# Altium footprint library wavesharereverse.PcbLib: 1 footprints
Each footprint in its own frame and in the unit in brackets; x right, y up, seen from the top. Pads: shape width x height; smd on the part's side, far side on the other; paste and mask are expansions set on the pad; w line width, h text height; cw(c..) or ccw(c..) is an arc to the next point about the centre after c.
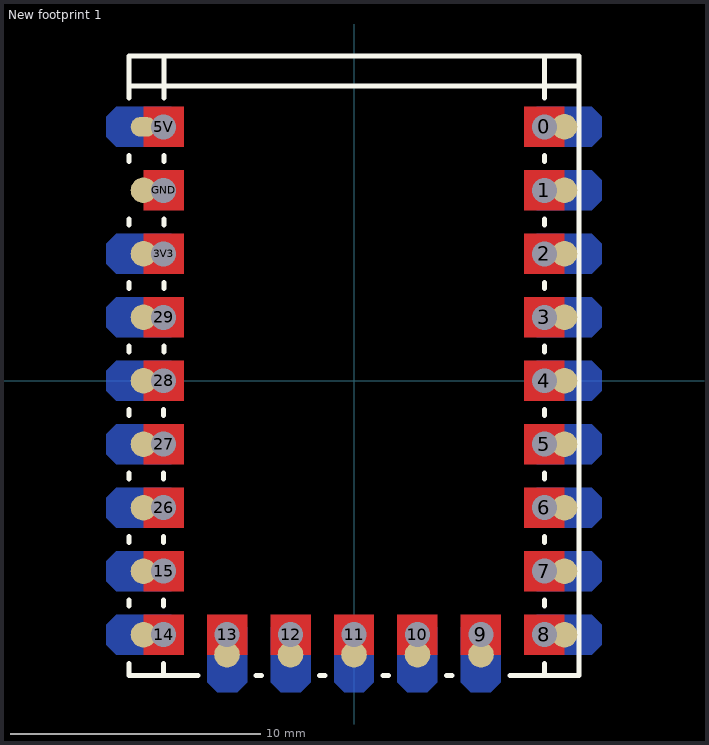
[diagram p0: the footprint, top view; thin cyan lines are the x and y axes]

## New footprint 1 [mm]
pads (23):
  round 1.025 / inner oct 3x1.6 / far side oct 1.6x1.6 hole 1 copper offset 0.8,0: 0(7.62,10.16) 1(7.62,7.62) 2(7.62,5.08) 3(7.62,2.54) 4(7.62,0) 5(7.62,-2.54) 6(7.62,-5.08) 7(7.62,-7.62) 8(7.62,-10.16)
  round 1.025 / inner oct 3x1.6 / far side oct 1.6x1.6 hole 1 copper offset -0.8,0: 3V3(-7.62,5.08) 14(-7.62,-10.16) 15(-7.62,-7.62) 26(-7.62,-5.08) 27(-7.62,-2.54) 28(-7.62,0) 29(-7.62,2.54)
  oval 1.025x0.787 / inner oct 3x1.6 / far side oct 1.6x1.6 hole 1 copper offset -0.8,0: 5V(-7.62,10.16)
  round 1.025 / inner oct 1.6x3 / far side oct 3x3 hole 1 copper offset 0,-0.8: 9(5.08,-10.16) 10(2.54,-10.16) 11(0,-10.16) 12(-2.54,-10.16) 13(-5.08,-10.16)
  round 1.025 / inner oct 3x1.6 / far side rect 3x1.6 hole 1 copper offset -0.8,0: GND(-7.62,7.62)
Top Layer:
  region: -5.88,-10.96 -4.28,-10.96 -4.28,-9.36 -5.88,-9.36
  region: -0.8,-10.96 0.8,-10.96 0.8,-9.36 -0.8,-9.36
  region: 1.74,-10.96 3.34,-10.96 3.34,-9.36 1.74,-9.36
  region: 4.28,-10.96 5.88,-10.96 5.88,-9.36 4.28,-9.36
  region: 6.82,10.96 6.82,9.36 8.42,9.36 8.42,10.96
  region: 6.82,8.42 6.82,6.82 8.42,6.82 8.42,8.42
  region: 6.82,5.88 6.82,4.28 8.42,4.28 8.42,5.88
  region: 6.82,3.34 6.82,1.74 8.42,1.74 8.42,3.34
  region: 6.82,0.8 6.82,-0.8 8.42,-0.8 8.42,0.8
  region: 6.82,-1.74 6.82,-3.34 8.42,-3.34 8.42,-1.74
  region: 6.82,-4.28 6.82,-5.88 8.42,-5.88 8.42,-4.28
  region: 6.82,-6.82 6.82,-8.42 8.42,-8.42 8.42,-6.82
  region: 6.82,-9.36 6.82,-10.96 8.42,-10.96 8.42,-9.36
  region: -6.82,10.96 -6.82,9.36 -8.42,9.36 -8.42,10.96
  region: -6.82,8.42 -6.82,6.82 -8.42,6.82 -8.42,8.42
  region: -6.82,5.88 -6.82,4.28 -8.42,4.28 -8.42,5.88
  region: -6.82,3.34 -6.82,1.74 -8.42,1.74 -8.42,3.34
  region: -6.82,0.8 -6.82,-0.8 -8.42,-0.8 -8.42,0.8
  region: -6.82,-1.74 -6.82,-3.34 -8.42,-3.34 -8.42,-1.74
  region: -6.82,-4.28 -6.82,-5.88 -8.42,-5.88 -8.42,-4.28
  region: -6.82,-6.82 -6.82,-8.42 -8.42,-8.42 -8.42,-6.82
  region: -6.82,-9.36 -6.82,-10.96 -8.42,-10.96 -8.42,-9.36
  region: -3.34,-10.96 -1.74,-10.96 -1.74,-9.36 -3.34,-9.36
Bottom Layer:
  region: -5.88,-12.06 -5.48,-12.46 -4.68,-12.46 -4.28,-12.06 -4.28,-9.86 -4.68,-9.46 -5.48,-9.46 -5.88,-9.86
  region: -0.8,-12.06 -0.4,-12.46 0.4,-12.46 0.8,-12.06 0.8,-9.86 0.4,-9.46 -0.4,-9.46 -0.8,-9.86
  region: 1.74,-12.06 2.14,-12.46 2.94,-12.46 3.34,-12.06 3.34,-9.86 2.94,-9.46 2.14,-9.46 1.74,-9.86
  region: 4.28,-12.06 4.68,-12.46 5.48,-12.46 5.88,-12.06 5.88,-9.86 5.48,-9.46 4.68,-9.46 4.28,-9.86
  region: 7.32,9.36 6.92,9.76 6.92,10.56 7.32,10.96 9.52,10.96 9.92,10.56 9.92,9.76 9.52,9.36
  region: 7.32,6.82 6.92,7.22 6.92,8.02 7.32,8.42 9.52,8.42 9.92,8.02 9.92,7.22 9.52,6.82
  region: 7.32,4.28 6.92,4.68 6.92,5.48 7.32,5.88 9.52,5.88 9.92,5.48 9.92,4.68 9.52,4.28
  region: 7.32,1.74 6.92,2.14 6.92,2.94 7.32,3.34 9.52,3.34 9.92,2.94 9.92,2.14 9.52,1.74
  region: 7.32,-0.8 6.92,-0.4 6.92,0.4 7.32,0.8 9.52,0.8 9.92,0.4 9.92,-0.4 9.52,-0.8
  region: 7.32,-3.34 6.92,-2.94 6.92,-2.14 7.32,-1.74 9.52,-1.74 9.92,-2.14 9.92,-2.94 9.52,-3.34
  region: 7.32,-5.88 6.92,-5.48 6.92,-4.68 7.32,-4.28 9.52,-4.28 9.92,-4.68 9.92,-5.48 9.52,-5.88
  region: 7.32,-8.42 6.92,-8.02 6.92,-7.22 7.32,-6.82 9.52,-6.82 9.92,-7.22 9.92,-8.02 9.52,-8.42
  region: 7.32,-10.96 6.92,-10.56 6.92,-9.76 7.32,-9.36 9.52,-9.36 9.92,-9.76 9.92,-10.56 9.52,-10.96
  region: -9.52,9.36 -9.92,9.76 -9.92,10.56 -9.52,10.96 -7.32,10.96 -6.92,10.56 -6.92,9.76 -7.32,9.36
  region: -9.52,4.28 -9.92,4.68 -9.92,5.48 -9.52,5.88 -7.32,5.88 -6.92,5.48 -6.92,4.68 -7.32,4.28
  region: -9.52,1.74 -9.92,2.14 -9.92,2.94 -9.52,3.34 -7.32,3.34 -6.92,2.94 -6.92,2.14 -7.32,1.74
  region: -9.52,-0.8 -9.92,-0.4 -9.92,0.4 -9.52,0.8 -7.32,0.8 -6.92,0.4 -6.92,-0.4 -7.32,-0.8
  region: -9.52,-3.34 -9.92,-2.94 -9.92,-2.14 -9.52,-1.74 -7.32,-1.74 -6.92,-2.14 -6.92,-2.94 -7.32,-3.34
  region: -9.52,-5.88 -9.92,-5.48 -9.92,-4.68 -9.52,-4.28 -7.32,-4.28 -6.92,-4.68 -6.92,-5.48 -7.32,-5.88
  region: -9.52,-8.42 -9.92,-8.02 -9.92,-7.22 -9.52,-6.82 -7.32,-6.82 -6.92,-7.22 -6.92,-8.02 -7.32,-8.42
  region: -9.52,-10.96 -9.92,-10.56 -9.92,-9.76 -9.52,-9.36 -7.32,-9.36 -6.92,-9.76 -6.92,-10.56 -7.32,-10.96
  region: -3.34,-12.06 -2.94,-12.46 -2.14,-12.46 -1.74,-12.06 -1.74,-9.86 -2.14,-9.46 -2.94,-9.46 -3.34,-9.86
Top Overlay:
  lines w0.2: -9,-11.312 -9,-11.8 -6.232,-11.8 ; -9,-9.008 -9,-8.772 ; -9,-6.468 -9,-6.232 ; -9,-3.928 -9,-3.692 ; -9,-1.388 -9,-1.152 ; -9,1.152 -9,1.388 ; -9,3.692 -9,3.928 ; -9,6.232 -9,6.468 ; -9,8.772 -9,9.008 ; -9,11.312 -9,13 9,13 9,-11.8 6.232,-11.8 ; -9,11.8 9,11.8 ; -7.621,-11.8 -7.621,-11.312 ; -7.619,-9.008 -7.619,-8.772 ; -7.617,-6.468 -7.617,-6.232 ; -7.615,-3.928 -7.614,-3.692 ; -7.612,-1.388 -7.612,-1.152 ; -7.61,1.152 -7.61,1.388 ; -7.608,3.692 -7.608,3.928 ; -7.606,6.232 -7.606,6.468 ; -7.604,8.772 -7.603,9.008 ; -7.601,11.312 -7.6,13 ; -3.928,-11.8 -3.692,-11.8 ; -1.388,-11.8 -1.152,-11.8 ; 1.152,-11.8 1.388,-11.8 ; 3.692,-11.8 3.928,-11.8 ; 7.62,-11.8 7.62,-11.312 ; 7.62,-9.008 7.62,-8.772 ; 7.62,-6.468 7.62,-6.232 ; 7.62,-3.928 7.62,-3.692 ; 7.62,-1.388 7.62,-1.152 ; 7.62,1.152 7.62,1.388 ; 7.62,3.692 7.62,3.928 ; 7.62,6.232 7.62,6.468 ; 7.62,8.772 7.62,9.008 ; 7.62,11.312 7.62,12.98
Bottom Overlay:
  lines w0.1: -5.3,-7.3 ccw(c-3.6,-7.3) -3.6,-9 3.6,-9 ccw(c3.6,-7.3) 5.3,-7.3 5.3,9.8 ccw(c3.849,9.8) 3.849,11.251 -3.849,11.251 ccw(c-3.849,9.8) -5.3,9.8 -5.3,-7.3
3D body "RP2040_Zero.stp": height 2.85, standoff -2.49, extent -8.997,-11.762 9.02,12.962